# Altium footprint library AD7291BCPZ.PcbLib: 3 footprints
Each footprint in its own frame and in the unit in brackets; x right, y up, seen from the top. Pads: shape width x height; smd on the part's side, far side on the other; paste and mask are expansions set on the pad; w line width, h text height; cw(c..) or ccw(c..) is an arc to the next point about the centre after c.
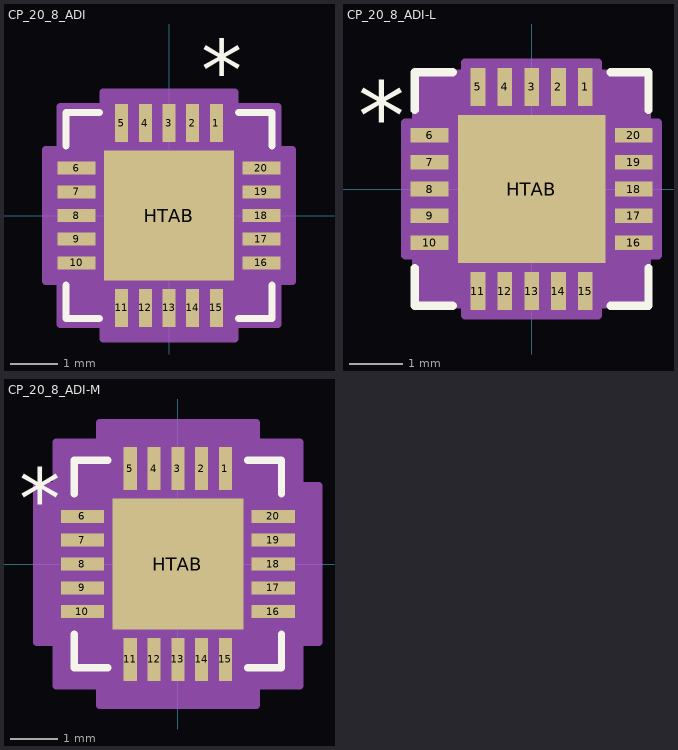
[diagram p0: the footprints below, top view; thin cyan lines are the x and y axes]

## CP_20_8_ADI [mm]
pads (21):
  rect 0.275x0.805 smd paste+0 mask+0: 1(1,1.952) 2(0.5,1.952) 3(0,1.952) 4(-0.5,1.952) 5(-1,1.952) 11(-1,-1.952) 12(-0.5,-1.952) 13(0,-1.952) 14(0.5,-1.952) 15(1,-1.952)
  rect 0.805x0.275 smd paste+0 mask+0: 6(-1.952,1) 7(-1.952,0.5) 8(-1.952,0) 9(-1.952,-0.5) 10(-1.952,-1) 16(1.952,-1) 17(1.952,-0.5) 18(1.952,0) 19(1.952,0.5) 20(1.952,1)
  rect 2.75x2.75 smd paste+0 mask+0: HTAB(0,0)
Top Overlay:
  lines w0.152: -2.177,-1.47 -2.177,-2.177 -1.47,-2.177 ; -2.177,1.47 -2.177,2.177 -1.47,2.177 ; 1.47,-2.177 2.177,-2.177 2.177,-1.47 ; 1.47,2.177 2.177,2.177 2.177,1.47
  text "*" at 0.683,2.46 h1.27
Top Paste:
  region: -0.1,1.275 -1.275,1.275 -1.275,0.1 -0.1,0.1
  region: -0.1,-0.1 -1.275,-0.1 -1.275,-1.275 -0.1,-1.275
  region: 1.275,1.275 0.1,1.275 0.1,0.1 1.275,0.1
  region: 1.275,-0.1 0.1,-0.1 0.1,-1.275 1.275,-1.275
Mechanical 13:
  lines w0.025: -2.05,-1.15 -2.05,-0.85 ; -2.05,-1.15 -2.05,-0.85 ; -2.05,-1.15 -2.05,-1.15 ; -2.05,-0.85 -2.05,-0.85 ; -2.05,-0.65 -2.05,-0.35 ; -2.05,-0.65 -2.05,-0.35 ; -2.05,-0.65 -2.05,-0.65 ; -2.05,-0.35 -2.05,-0.35 ; -2.05,-0.15 -2.05,0.15 ; -2.05,-0.15 -2.05,0.15 ; -2.05,-0.15 -2.05,-0.15 ; -2.05,0.15 -2.05,0.15 ; -2.05,0.35 -2.05,0.65 ; -2.05,0.35 -2.05,0.65 ; -2.05,0.35 -2.05,0.35 ; -2.05,0.65 -2.05,0.65 ; -2.05,0.85 -2.05,1.15 ; -2.05,0.85 -2.05,1.15 ; -2.05,0.85 -2.05,0.85 ; -2.05,1.15 -2.05,1.15 ; -1.15,-2.05 -0.85,-2.05 ; -1.15,-2.05 -1.15,-2.05 ; -1.15,-2.05 -0.85,-2.05 ; -1.15,2.05 -0.85,2.05 ; -1.15,2.05 -0.85,2.05 ; -1.15,2.05 -1.15,2.05 ; -0.85,-2.05 -0.85,-2.05 ; -0.85,2.05 -0.85,2.05 ; -0.65,-2.05 -0.35,-2.05 ; -0.65,-2.05 -0.65,-2.05 ; -0.65,-2.05 -0.35,-2.05 ; -0.65,2.05 -0.35,2.05 ; -0.65,2.05 -0.35,2.05 ; -0.65,2.05 -0.65,2.05 ; -0.35,-2.05 -0.35,-2.05 ; -0.35,2.05 -0.35,2.05 ; -0.15,-2.05 0.15,-2.05 ; -0.15,-2.05 -0.15,-2.05 ; -0.15,-2.05 0.15,-2.05 ; -0.15,2.05 0.15,2.05 ; -0.15,2.05 0.15,2.05 ; -0.15,2.05 -0.15,2.05 ; 0.15,-2.05 0.15,-2.05 ; 0.15,2.05 0.15,2.05 ; 0.35,-2.05 0.65,-2.05 ; 0.35,-2.05 0.35,-2.05 ; 0.35,-2.05 0.65,-2.05 ; 0.35,2.05 0.65,2.05 ; 0.35,2.05 0.65,2.05 ; 0.35,2.05 0.35,2.05 ; 0.65,-2.05 0.65,-2.05 ; 0.65,2.05 0.65,2.05 ; 0.85,-2.05 1.15,-2.05 ; 0.85,-2.05 0.85,-2.05 ; 0.85,-2.05 1.15,-2.05 ; 0.85,2.05 1.15,2.05 ; 0.85,2.05 1.15,2.05 ; 0.85,2.05 0.85,2.05 ; 1.15,-2.05 1.15,-2.05 ; 1.15,2.05 1.15,2.05 ; 2.05,-1.15 2.05,-0.85 ; 2.05,-1.15 2.05,-1.15 ; 2.05,-1.15 2.05,-0.85 ; 2.05,-0.85 2.05,-0.85 ; 2.05,-0.65 2.05,-0.35 ; 2.05,-0.65 2.05,-0.65 ; 2.05,-0.65 2.05,-0.35 ; 2.05,-0.35 2.05,-0.35 ; 2.05,-0.15 2.05,0.15 ; 2.05,-0.15 2.05,-0.15 ; 2.05,-0.15 2.05,0.15 ; 2.05,0.15 2.05,0.15 ; 2.05,0.35 2.05,0.65 ; 2.05,0.35 2.05,0.35 ; 2.05,0.35 2.05,0.65 ; 2.05,0.65 2.05,0.65 ; 2.05,0.85 2.05,1.15 ; 2.05,0.85 2.05,0.85 ; 2.05,0.85 2.05,1.15 ; 2.05,1.15 2.05,1.15 ; -2.05,-2.05 2.05,-2.05 2.05,2.05 -2.05,2.05 -2.05,-2.05
  text "*" at 0.841,1.482 h0.64
Mechanical 15:
  region: -1.391,-2.304 -2.304,-2.304 -2.304,-1.391 -2.609,-1.391 -2.609,1.391 -2.304,1.391 -2.304,2.304 -1.391,2.304 -1.391,2.609 1.391,2.609 1.391,2.304 2.304,2.304 2.304,1.391 2.609,1.391 2.609,-1.391 2.304,-1.391 2.304,-2.304 1.391,-2.304 1.391,-2.609 -1.391,-2.609
  lines w0.152: -2.609,-1.391 -2.304,-1.391 -2.304,-2.304 -1.391,-2.304 -1.391,-2.609 1.391,-2.609 1.391,-2.304 2.304,-2.304 2.304,-1.391 2.609,-1.391 2.609,1.391 2.304,1.391 2.304,2.304 1.391,2.304 1.391,2.609 -1.391,2.609 -1.391,2.304 -2.304,2.304 -2.304,1.391 -2.609,1.391 -2.609,-1.391
3D body "CP_20_8_ADI.step": height 0.6, standoff 0, extent -2.05,-2.05 2.05,2.05

## CP_20_8_ADI-L [mm]
pads (21):
  rect 0.275x0.703 smd paste+0 mask+0: 1(1,1.902) 2(0.5,1.902) 3(0,1.902) 4(-0.5,1.902) 5(-1,1.902) 11(-1,-1.902) 12(-0.5,-1.902) 13(0,-1.902) 14(0.5,-1.902) 15(1,-1.902)
  rect 0.703x0.275 smd paste+0 mask+0: 6(-1.902,1) 7(-1.902,0.5) 8(-1.902,0) 9(-1.902,-0.5) 10(-1.902,-1) 16(1.902,-1) 17(1.902,-0.5) 18(1.902,0) 19(1.902,0.5) 20(1.902,1)
  rect 2.75x2.75 smd paste+0 mask+0: HTAB(0,0)
Top Overlay:
  lines w0.152: -2.177,-1.47 -2.177,-2.177 -1.47,-2.177 ; -2.177,1.47 -2.177,2.177 -1.47,2.177 ; 1.47,-2.177 2.177,-2.177 2.177,-1.47 ; 1.47,2.177 2.177,2.177 2.177,1.47
  text "*" at -3.235,0.746 h1.27
Top Paste:
  region: -0.1,1.275 -1.275,1.275 -1.275,0.1 -0.1,0.1
  region: -0.1,-0.1 -1.275,-0.1 -1.275,-1.275 -0.1,-1.275
  region: 1.275,1.275 0.1,1.275 0.1,0.1 1.275,0.1
  region: 1.275,-0.1 0.1,-0.1 0.1,-1.275 1.275,-1.275
Mechanical 13:
  lines w0.025: -2.05,-1.15 -2.05,-0.85 ; -2.05,-1.15 -2.05,-0.85 ; -2.05,-1.15 -2.05,-1.15 ; -2.05,-0.85 -2.05,-0.85 ; -2.05,-0.65 -2.05,-0.35 ; -2.05,-0.65 -2.05,-0.35 ; -2.05,-0.65 -2.05,-0.65 ; -2.05,-0.35 -2.05,-0.35 ; -2.05,-0.15 -2.05,0.15 ; -2.05,-0.15 -2.05,0.15 ; -2.05,-0.15 -2.05,-0.15 ; -2.05,0.15 -2.05,0.15 ; -2.05,0.35 -2.05,0.65 ; -2.05,0.35 -2.05,0.65 ; -2.05,0.35 -2.05,0.35 ; -2.05,0.65 -2.05,0.65 ; -2.05,0.85 -2.05,1.15 ; -2.05,0.85 -2.05,1.15 ; -2.05,0.85 -2.05,0.85 ; -2.05,1.15 -2.05,1.15 ; -1.15,-2.05 -0.85,-2.05 ; -1.15,-2.05 -1.15,-2.05 ; -1.15,-2.05 -0.85,-2.05 ; -1.15,2.05 -0.85,2.05 ; -1.15,2.05 -0.85,2.05 ; -1.15,2.05 -1.15,2.05 ; -0.85,-2.05 -0.85,-2.05 ; -0.85,2.05 -0.85,2.05 ; -0.65,-2.05 -0.35,-2.05 ; -0.65,-2.05 -0.65,-2.05 ; -0.65,-2.05 -0.35,-2.05 ; -0.65,2.05 -0.35,2.05 ; -0.65,2.05 -0.35,2.05 ; -0.65,2.05 -0.65,2.05 ; -0.35,-2.05 -0.35,-2.05 ; -0.35,2.05 -0.35,2.05 ; -0.15,-2.05 0.15,-2.05 ; -0.15,-2.05 -0.15,-2.05 ; -0.15,-2.05 0.15,-2.05 ; -0.15,2.05 0.15,2.05 ; -0.15,2.05 0.15,2.05 ; -0.15,2.05 -0.15,2.05 ; 0.15,-2.05 0.15,-2.05 ; 0.15,2.05 0.15,2.05 ; 0.35,-2.05 0.65,-2.05 ; 0.35,-2.05 0.35,-2.05 ; 0.35,-2.05 0.65,-2.05 ; 0.35,2.05 0.65,2.05 ; 0.35,2.05 0.65,2.05 ; 0.35,2.05 0.35,2.05 ; 0.65,-2.05 0.65,-2.05 ; 0.65,2.05 0.65,2.05 ; 0.85,-2.05 1.15,-2.05 ; 0.85,-2.05 0.85,-2.05 ; 0.85,-2.05 1.15,-2.05 ; 0.85,2.05 1.15,2.05 ; 0.85,2.05 1.15,2.05 ; 0.85,2.05 0.85,2.05 ; 1.15,-2.05 1.15,-2.05 ; 1.15,2.05 1.15,2.05 ; 2.05,-1.15 2.05,-0.85 ; 2.05,-1.15 2.05,-1.15 ; 2.05,-1.15 2.05,-0.85 ; 2.05,-0.85 2.05,-0.85 ; 2.05,-0.65 2.05,-0.35 ; 2.05,-0.65 2.05,-0.65 ; 2.05,-0.65 2.05,-0.35 ; 2.05,-0.35 2.05,-0.35 ; 2.05,-0.15 2.05,0.15 ; 2.05,-0.15 2.05,-0.15 ; 2.05,-0.15 2.05,0.15 ; 2.05,0.15 2.05,0.15 ; 2.05,0.35 2.05,0.65 ; 2.05,0.35 2.05,0.35 ; 2.05,0.35 2.05,0.65 ; 2.05,0.65 2.05,0.65 ; 2.05,0.85 2.05,1.15 ; 2.05,0.85 2.05,0.85 ; 2.05,0.85 2.05,1.15 ; 2.05,1.15 2.05,1.15 ; -2.05,-2.05 2.05,-2.05 2.05,2.05 -2.05,2.05 -2.05,-2.05
  text "*" at -1.806,0.835 h0.64
Mechanical 15:
  region: -1.239,-2.152 -2.152,-2.152 -2.152,-1.239 -2.355,-1.239 -2.355,1.239 -2.152,1.239 -2.152,2.152 -1.239,2.152 -1.239,2.355 1.239,2.355 1.239,2.152 2.152,2.152 2.152,1.239 2.355,1.239 2.355,-1.239 2.152,-1.239 2.152,-2.152 1.239,-2.152 1.239,-2.355 -1.239,-2.355
  lines w0.152: -2.355,-1.239 -2.152,-1.239 -2.152,-2.152 -1.239,-2.152 -1.239,-2.355 1.239,-2.355 1.239,-2.152 2.152,-2.152 2.152,-1.239 2.355,-1.239 2.355,1.239 2.152,1.239 2.152,2.152 1.239,2.152 1.239,2.355 -1.239,2.355 -1.239,2.152 -2.152,2.152 -2.152,1.239 -2.355,1.239 -2.355,-1.239
3D body "CP_20_8_ADI.step": height 0.6, standoff 0, extent -2.05,-2.05 2.05,2.05

## CP_20_8_ADI-M [mm]
pads (21):
  rect 0.275x0.906 smd paste+0 mask+0: 1(1,2.003) 2(0.5,2.003) 3(0,2.003) 4(-0.5,2.003) 5(-1,2.003) 11(-1,-2.003) 12(-0.5,-2.003) 13(0,-2.003) 14(0.5,-2.003) 15(1,-2.003)
  rect 0.906x0.275 smd paste+0 mask+0: 6(-2.003,1) 7(-2.003,0.5) 8(-2.003,0) 9(-2.003,-0.5) 10(-2.003,-1) 16(2.003,-1) 17(2.003,-0.5) 18(2.003,0) 19(2.003,0.5) 20(2.003,1)
  rect 2.75x2.75 smd paste+0 mask+0: HTAB(0,0)
Top Overlay:
  lines w0.152: -2.177,-1.47 -2.177,-2.177 -1.47,-2.177 ; -2.177,1.47 -2.177,2.177 -1.47,2.177 ; 1.47,-2.177 2.177,-2.177 2.177,-1.47 ; 1.47,2.177 2.177,2.177 2.177,1.47
  text "*" at -3.337,0.746 h1.27
Top Paste:
  region: -0.1,1.275 -1.275,1.275 -1.275,0.1 -0.1,0.1
  region: -0.1,-0.1 -1.275,-0.1 -1.275,-1.275 -0.1,-1.275
  region: 1.275,1.275 0.1,1.275 0.1,0.1 1.275,0.1
  region: 1.275,-0.1 0.1,-0.1 0.1,-1.275 1.275,-1.275
Mechanical 13:
  lines w0.025: -2.05,-1.15 -2.05,-0.85 ; -2.05,-1.15 -2.05,-0.85 ; -2.05,-1.15 -2.05,-1.15 ; -2.05,-0.85 -2.05,-0.85 ; -2.05,-0.65 -2.05,-0.35 ; -2.05,-0.65 -2.05,-0.35 ; -2.05,-0.65 -2.05,-0.65 ; -2.05,-0.35 -2.05,-0.35 ; -2.05,-0.15 -2.05,0.15 ; -2.05,-0.15 -2.05,0.15 ; -2.05,-0.15 -2.05,-0.15 ; -2.05,0.15 -2.05,0.15 ; -2.05,0.35 -2.05,0.65 ; -2.05,0.35 -2.05,0.65 ; -2.05,0.35 -2.05,0.35 ; -2.05,0.65 -2.05,0.65 ; -2.05,0.85 -2.05,1.15 ; -2.05,0.85 -2.05,1.15 ; -2.05,0.85 -2.05,0.85 ; -2.05,1.15 -2.05,1.15 ; -1.15,-2.05 -0.85,-2.05 ; -1.15,-2.05 -1.15,-2.05 ; -1.15,-2.05 -0.85,-2.05 ; -1.15,2.05 -0.85,2.05 ; -1.15,2.05 -0.85,2.05 ; -1.15,2.05 -1.15,2.05 ; -0.85,-2.05 -0.85,-2.05 ; -0.85,2.05 -0.85,2.05 ; -0.65,-2.05 -0.35,-2.05 ; -0.65,-2.05 -0.65,-2.05 ; -0.65,-2.05 -0.35,-2.05 ; -0.65,2.05 -0.35,2.05 ; -0.65,2.05 -0.35,2.05 ; -0.65,2.05 -0.65,2.05 ; -0.35,-2.05 -0.35,-2.05 ; -0.35,2.05 -0.35,2.05 ; -0.15,-2.05 0.15,-2.05 ; -0.15,-2.05 -0.15,-2.05 ; -0.15,-2.05 0.15,-2.05 ; -0.15,2.05 0.15,2.05 ; -0.15,2.05 0.15,2.05 ; -0.15,2.05 -0.15,2.05 ; 0.15,-2.05 0.15,-2.05 ; 0.15,2.05 0.15,2.05 ; 0.35,-2.05 0.65,-2.05 ; 0.35,-2.05 0.35,-2.05 ; 0.35,-2.05 0.65,-2.05 ; 0.35,2.05 0.65,2.05 ; 0.35,2.05 0.65,2.05 ; 0.35,2.05 0.35,2.05 ; 0.65,-2.05 0.65,-2.05 ; 0.65,2.05 0.65,2.05 ; 0.85,-2.05 1.15,-2.05 ; 0.85,-2.05 0.85,-2.05 ; 0.85,-2.05 1.15,-2.05 ; 0.85,2.05 1.15,2.05 ; 0.85,2.05 1.15,2.05 ; 0.85,2.05 0.85,2.05 ; 1.15,-2.05 1.15,-2.05 ; 1.15,2.05 1.15,2.05 ; 2.05,-1.15 2.05,-0.85 ; 2.05,-1.15 2.05,-1.15 ; 2.05,-1.15 2.05,-0.85 ; 2.05,-0.85 2.05,-0.85 ; 2.05,-0.65 2.05,-0.35 ; 2.05,-0.65 2.05,-0.65 ; 2.05,-0.65 2.05,-0.35 ; 2.05,-0.35 2.05,-0.35 ; 2.05,-0.15 2.05,0.15 ; 2.05,-0.15 2.05,-0.15 ; 2.05,-0.15 2.05,0.15 ; 2.05,0.15 2.05,0.15 ; 2.05,0.35 2.05,0.65 ; 2.05,0.35 2.05,0.35 ; 2.05,0.35 2.05,0.65 ; 2.05,0.65 2.05,0.65 ; 2.05,0.85 2.05,1.15 ; 2.05,0.85 2.05,0.85 ; 2.05,0.85 2.05,1.15 ; 2.05,1.15 2.05,1.15 ; -2.05,-2.05 2.05,-2.05 2.05,2.05 -2.05,2.05 -2.05,-2.05
  text "*" at -1.908,0.835 h0.64
Mechanical 15:
  region: -1.645,-2.558 -2.558,-2.558 -2.558,-1.645 -2.964,-1.645 -2.964,1.645 -2.558,1.645 -2.558,2.558 -1.645,2.558 -1.645,2.964 1.645,2.964 1.645,2.558 2.558,2.558 2.558,1.645 2.964,1.645 2.964,-1.645 2.558,-1.645 2.558,-2.558 1.645,-2.558 1.645,-2.964 -1.645,-2.964
  lines w0.152: -2.964,-1.645 -2.558,-1.645 -2.558,-2.558 -1.645,-2.558 -1.645,-2.964 1.645,-2.964 1.645,-2.558 2.558,-2.558 2.558,-1.645 2.964,-1.645 2.964,1.645 2.558,1.645 2.558,2.558 1.645,2.558 1.645,2.964 -1.645,2.964 -1.645,2.558 -2.558,2.558 -2.558,1.645 -2.964,1.645 -2.964,-1.645
3D body "CP_20_8_ADI.step": height 0.6, standoff 0, extent -2.05,-2.05 2.05,2.05